# Altium footprint library 油烟采集模块.PcbLib: 18 footprints (part 2 of 2)
Each footprint in its own frame and in the unit in brackets; x right, y up, seen from the top. Pads: shape width x height; smd on the part's side, far side on the other; paste and mask are expansions set on the pad; w line width, h text height; cw(c..) or ccw(c..) is an arc to the next point about the centre after c.
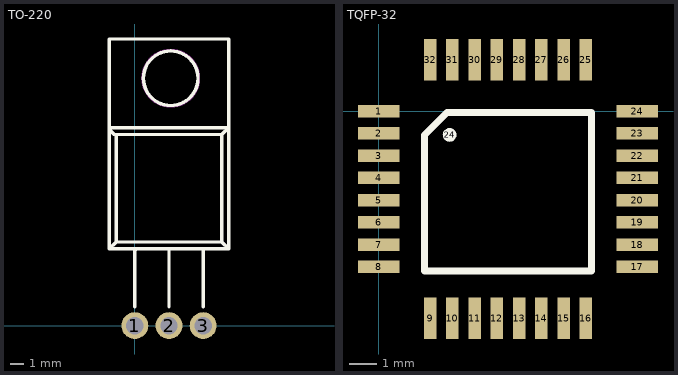
[diagram p1: the footprints below, top view; thin cyan lines are the x and y axes]

## TO-220 [mm]
pads (3):
  round 2 hole 1.3: 1(0,0) 2(2.54,0) 3(5.08,0)
Top Overlay:
  circle w0.254: c2.667,18.415 r2.032
  lines w0.254: -1.905,14.605 -1.524,14.224 -1.397,14.224 ; -1.905,14.732 6.985,14.732 6.477,14.224 ; 0,1.397 0,2.54 0,5.588 0.127,5.715 ; 2.54,1.397 2.54,2.54 2.54,5.715 ; 5.08,1.397 5.08,2.54 5.08,5.715 ; -1.905,5.715 -1.905,21.336 6.985,21.336 6.985,5.715 ; -1.905,5.715 5.08,5.715 ; -1.905,5.715 -1.397,6.223 ; -1.397,6.223 -1.397,14.224 ; -1.397,6.223 6.477,6.223 ; -1.397,14.224 6.477,14.224 ; 5.08,5.715 6.985,5.715 ; 6.477,6.223 6.477,14.224 ; 6.477,6.223 6.985,5.715
Keep-Out Layer:
  circle w0.254: c2.667,18.415 r2.067
Multi-Layer:
  rectangle: -0.381,8.636 5.588,16.002

## TQFP-32 [mm]
pads (33):
  rect 1.5x0.45 smd: 1(0,0) 2(0,-0.8) 3(0,-1.6) 4(0,-2.4) 5(0,-3.2) 6(0,-4) 7(0,-4.8) 8(0,-5.6) 17(9.3,-5.6) 18(9.3,-4.8) 19(9.3,-4) 20(9.3,-3.2) 21(9.3,-2.4) 22(9.3,-1.6) 23(9.3,-0.8) 24(9.3,0)
  rect 0.45x1.5 smd: 9(1.85,-7.45) 10(2.65,-7.45) 11(3.45,-7.45) 12(4.25,-7.45) 13(5.05,-7.45) 14(5.85,-7.45) 15(6.65,-7.45) 16(7.45,-7.45) 25(7.45,1.85) 26(6.65,1.85) 27(5.85,1.85) 28(5.05,1.85) 29(4.25,1.85) 30(3.45,1.85) 31(2.65,1.85) 32(1.85,1.85)
  round 0.5 on Top Overlay: 24(2.55,-0.85)
Top Overlay:
  lines w0.254: 1.65,-5.75 7.65,-5.75 7.65,-0.05 2.45,-0.05 1.65,-0.85 1.65,-5.75